# Altium footprint library DIP-8.PcbLib: 1 footprints
Each footprint in its own frame and in the unit in brackets; x right, y up, seen from the top. Pads: shape width x height; smd on the part's side, far side on the other; paste and mask are expansions set on the pad; w line width, h text height; cw(c..) or ccw(c..) is an arc to the next point about the centre after c.
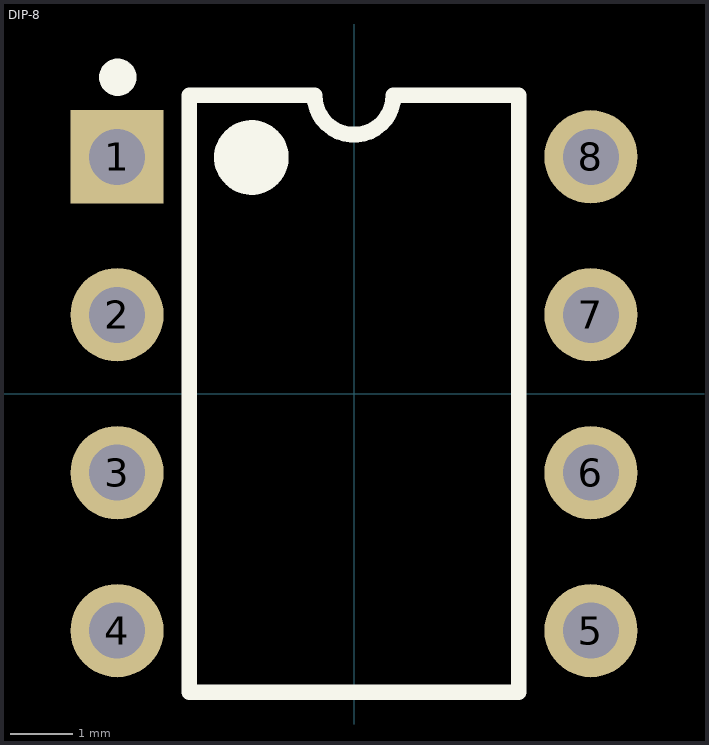
[diagram p0: the footprint, top view; thin cyan lines are the x and y axes]

## DIP-8 [mm]
pads (8):
  rect 1.5x1.5 hole 0.9: 1(-3.81,3.81)
  round 1.5 hole 0.9: 2(-3.81,1.27) 3(-3.81,-1.27) 4(-3.81,-3.81) 5(3.81,-3.81) 6(3.81,-1.27) 7(3.81,1.27) 8(3.81,3.81)
Top Overlay:
  circle w0.3: c-3.8,5.09 r0.15
  circle w0.6: c-1.65,3.8 r0.3
  lines w0.254: -2.65,-4.8 -2.65,4.8 -0.635,4.8 ccw(c0,4.8) 0.635,4.8 2.65,4.8 2.65,-4.8 -2.65,-4.8
3D body: height 5.08, standoff -2.49, extent -3.935,-5.46 3.935,5.46